# Altium footprint library Excess.PcbLib: 4 footprints
Each footprint in its own frame and in the unit in brackets; x right, y up, seen from the top. Pads: shape width x height; smd on the part's side, far side on the other; paste and mask are expansions set on the pad; w line width, h text height; cw(c..) or ccw(c..) is an arc to the next point about the centre after c.
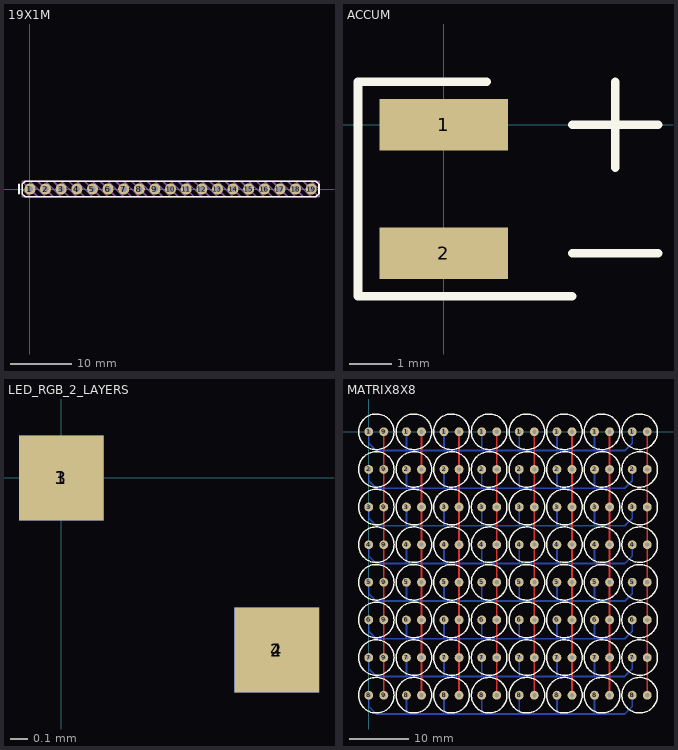
[diagram p0: the footprints below, top view; thin cyan lines are the x and y axes]

## 19X1M [mm]
pads (19):
  round 1.8 hole 1: 1(0,0) 2(2.54,0) 3(5.08,0) 4(7.62,0) 5(10.16,0) 6(12.7,0) 7(15.24,0) 8(17.78,0) 9(20.32,0) 10(22.86,0) 11(25.4,0) 12(27.94,0) 13(30.48,0) 14(33.02,0) 15(35.56,0) 16(38.1,0) 17(40.64,0) 18(43.18,0) 19(45.72,0)
Top Overlay:
  lines w0.254: -1.778,-0.762 -1.778,0.762 ; -1.27,-0.762 -1.27,0.762 -0.762,1.27 46.482,1.27 46.99,0.762 46.99,-0.762 46.482,-1.27 -0.762,-1.27 -1.27,-0.762
Draw:
  lines w0.254: -1.27,0 0,-1.27 0.254,-1.27 ; 0,1.27 1.27,0 2.54,-1.27 2.794,-1.27 ; 2.54,1.27 3.81,0 5.08,-1.27 5.334,-1.27 ; 5.08,1.27 6.35,0 7.62,-1.27 7.874,-1.27 ; 7.62,1.27 8.89,0 10.16,-1.27 10.414,-1.27 ; 10.16,1.27 11.43,0 12.7,-1.27 12.954,-1.27 ; 12.7,1.27 13.97,0 15.24,-1.27 15.494,-1.27 ; 15.24,1.27 16.51,0 17.78,-1.27 18.034,-1.27 ; 17.78,1.27 19.05,0 20.32,-1.27 20.574,-1.27 ; 20.32,1.27 21.59,0 22.86,-1.27 23.114,-1.27 ; 22.86,1.27 24.13,0 25.4,-1.27 25.654,-1.27 ; 25.4,1.27 26.67,0 27.94,-1.27 28.194,-1.27 ; 27.94,1.27 29.21,0 30.48,-1.27 30.734,-1.27 ; 30.48,1.27 31.75,0 33.02,-1.27 33.274,-1.27 ; 33.02,1.27 34.29,0 35.56,-1.27 35.814,-1.27 ; 35.56,1.27 36.83,0 38.1,-1.27 38.354,-1.27 ; 38.1,1.27 39.37,0 40.64,-1.27 40.894,-1.27 ; 40.64,1.27 41.91,0 43.18,-1.27 43.434,-1.27 ; 43.18,1.27 44.45,0 45.72,-1.27 ; 44.45,-1.27 41.91,1.27 ; 44.45,1.27 46.99,-1.27 ; 45.72,1.27 46.99,0 ; -1.27,1.27 1.27,-1.27 ; -1.27,1.27 1.27,1.27 ; -1.27,1.27 -1.27,-1.27 1.27,-1.27 ; 1.27,-1.27 3.81,-1.27 ; 1.27,1.27 3.81,-1.27 ; 1.27,1.27 3.81,1.27 ; 3.81,-1.27 6.35,-1.27 ; 3.81,1.27 6.35,-1.27 ; 3.81,1.27 6.35,1.27 ; 6.35,-1.27 8.89,-1.27 ; 6.35,1.27 8.89,-1.27 ; 6.35,1.27 8.89,1.27 ; 8.89,-1.27 11.43,-1.27 ; 8.89,1.27 11.43,-1.27 ; 8.89,1.27 11.43,1.27 ; 11.43,-1.27 13.97,-1.27 ; 11.43,1.27 13.97,-1.27 ; 11.43,1.27 13.97,1.27 ; 13.97,-1.27 16.51,-1.27 ; 13.97,1.27 16.51,-1.27 ; 13.97,1.27 16.51,1.27 ; 16.51,-1.27 19.05,-1.27 ; 16.51,1.27 19.05,-1.27 ; 16.51,1.27 19.05,1.27 ; 19.05,-1.27 21.59,-1.27 ; 19.05,1.27 21.59,-1.27 ; 19.05,1.27 21.59,1.27 ; 21.59,-1.27 24.13,-1.27 ; 21.59,1.27 24.13,-1.27 ; 21.59,1.27 24.13,1.27 ; 24.13,-1.27 26.67,-1.27 ; 24.13,1.27 26.67,-1.27 ; 24.13,1.27 26.67,1.27 ; 26.67,-1.27 29.21,-1.27 ; 26.67,1.27 29.21,-1.27 ; 26.67,1.27 29.21,1.27 ; 29.21,-1.27 31.75,-1.27 ; 29.21,1.27 31.75,-1.27 ; 29.21,1.27 31.75,1.27 ; 31.75,-1.27 34.29,-1.27 ; 31.75,1.27 34.29,-1.27 ; 31.75,1.27 34.29,1.27 ; 34.29,-1.27 36.83,-1.27 ; 34.29,1.27 36.83,-1.27 ; 34.29,1.27 36.83,1.27 ; 36.83,-1.27 39.37,-1.27 ; 36.83,1.27 39.37,-1.27 ; 36.83,1.27 39.37,1.27 ; 39.37,-1.27 41.91,-1.27 ; 39.37,1.27 41.91,1.27 ; 39.37,1.27 41.91,-1.27 ; 41.91,-1.27 46.99,-1.27 ; 41.91,1.27 46.99,1.27 46.99,-1.27
3D body: height 7.5, standoff 0, extent 42.647,0.508 43.714,0.534
3D body: height 7.5, standoff 0, extent 43.688,-0.533 43.714,0.533
3D body: height 8, standoff 7.5, extent 43.688,-1.016 44.189,1.016
3D body: height 8, standoff 7.5, extent 42.164,0.508 44.196,1.009
3D body: height 8, standoff 7.5, extent 42.172,-1.016 42.672,1.016
3D body: height 8, standoff 7.5, extent 42.19,-1.008 44.222,-0.508
3D body: height 8, standoff 0, extent 41.91,-1.27 42.19,1.27
3D body: height 1, standoff 0, extent 42.545,-0.635 43.815,0.635
3D body: height 7, standoff 0, extent 42.647,0.483 43.713,0.533
3D body: height 7, standoff 0, extent 43.663,-0.533 43.714,0.533
3D body: height 7, standoff 0, extent 42.647,-0.533 43.714,-0.483
3D body: height 8, standoff 0, extent 41.91,-1.27 44.45,-0.99
3D body: height 0, standoff -3, extent 43.053,-0.254 43.307,0.254
3D body: height 8, standoff 0, extent 41.91,0.991 44.45,1.27
3D body: height 8, standoff 0, extent 44.171,-1.27 44.45,1.27
3D body: height 7.5, standoff 0, extent 42.647,-0.533 43.714,-0.508
3D body: height 7.5, standoff 0, extent 42.647,-0.533 42.672,0.534
3D body: height 7, standoff 0, extent 42.647,-0.533 42.697,0.533
3D body: height 7.5, standoff 0, extent 40.107,0.508 41.174,0.534
3D body: height 7.5, standoff 0, extent 41.148,-0.533 41.174,0.533
3D body: height 8, standoff 7.5, extent 41.148,-1.016 41.649,1.016
3D body: height 8, standoff 7.5, extent 39.624,0.508 41.656,1.009
3D body: height 8, standoff 7.5, extent 39.632,-1.016 40.132,1.016
3D body: height 8, standoff 7.5, extent 39.65,-1.008 41.682,-0.508
3D body: height 8, standoff 0, extent 39.37,-1.27 39.65,1.27
3D body: height 1, standoff 0, extent 40.005,-0.635 41.275,0.635
3D body: height 7, standoff 0, extent 40.107,0.483 41.173,0.533
3D body: height 7, standoff 0, extent 41.123,-0.533 41.174,0.533
3D body: height 7, standoff 0, extent 40.107,-0.533 41.174,-0.483
3D body: height 8, standoff 0, extent 39.37,-1.27 41.91,-0.99
3D body: height 0, standoff -3, extent 40.513,-0.254 40.767,0.254
3D body: height 8, standoff 0, extent 39.37,0.991 41.91,1.27
3D body: height 8, standoff 0, extent 41.631,-1.27 41.91,1.27
3D body: height 7.5, standoff 0, extent 40.107,-0.533 41.174,-0.508
3D body: height 7.5, standoff 0, extent 40.107,-0.533 40.132,0.534
3D body: height 7, standoff 0, extent 40.107,-0.533 40.157,0.533
3D body: height 7.5, standoff 0, extent 37.567,0.508 38.634,0.534
3D body: height 7.5, standoff 0, extent 38.608,-0.533 38.634,0.533
3D body: height 8, standoff 7.5, extent 38.608,-1.016 39.109,1.016
3D body: height 8, standoff 7.5, extent 37.084,0.508 39.116,1.009
3D body: height 8, standoff 7.5, extent 37.092,-1.016 37.592,1.016
3D body: height 8, standoff 7.5, extent 37.11,-1.008 39.142,-0.508
3D body: height 8, standoff 0, extent 36.83,-1.27 37.11,1.27
3D body: height 1, standoff 0, extent 37.465,-0.635 38.735,0.635
3D body: height 7, standoff 0, extent 37.567,0.483 38.633,0.533
3D body: height 7, standoff 0, extent 38.583,-0.533 38.634,0.533
3D body: height 7, standoff 0, extent 37.567,-0.533 38.634,-0.483
3D body: height 8, standoff 0, extent 36.83,-1.27 39.37,-0.99
3D body: height 0, standoff -3, extent 37.973,-0.254 38.227,0.254
3D body: height 8, standoff 0, extent 36.83,0.991 39.37,1.27
3D body: height 8, standoff 0, extent 39.091,-1.27 39.37,1.27
3D body: height 7.5, standoff 0, extent 37.567,-0.533 38.634,-0.508
3D body: height 7.5, standoff 0, extent 37.567,-0.533 37.592,0.534
3D body: height 7, standoff 0, extent 37.567,-0.533 37.617,0.533
3D body: height 7.5, standoff 0, extent 35.027,0.508 36.094,0.534
3D body: height 7.5, standoff 0, extent 36.068,-0.533 36.094,0.533
3D body: height 8, standoff 7.5, extent 36.068,-1.016 36.569,1.016
3D body: height 8, standoff 7.5, extent 34.544,0.508 36.576,1.009
3D body: height 8, standoff 7.5, extent 34.552,-1.016 35.052,1.016
3D body: height 8, standoff 7.5, extent 34.57,-1.008 36.602,-0.508
3D body: height 8, standoff 0, extent 34.29,-1.27 34.57,1.27
3D body: height 1, standoff 0, extent 34.925,-0.635 36.195,0.635
3D body: height 7, standoff 0, extent 35.027,0.483 36.093,0.533
3D body: height 7, standoff 0, extent 36.043,-0.533 36.094,0.533
3D body: height 7, standoff 0, extent 35.027,-0.533 36.094,-0.483
3D body: height 8, standoff 0, extent 34.29,-1.27 36.83,-0.99
3D body: height 0, standoff -3, extent 35.433,-0.254 35.687,0.254
3D body: height 8, standoff 0, extent 34.29,0.991 36.83,1.27
3D body: height 8, standoff 0, extent 36.551,-1.27 36.83,1.27
3D body: height 7.5, standoff 0, extent 35.027,-0.533 36.094,-0.508
3D body: height 7.5, standoff 0, extent 35.027,-0.533 35.052,0.534
3D body: height 7, standoff 0, extent 35.027,-0.533 35.077,0.533
3D body: height 7.5, standoff 0, extent 32.487,0.508 33.554,0.534
3D body: height 7.5, standoff 0, extent 33.528,-0.533 33.554,0.533
3D body: height 8, standoff 7.5, extent 33.528,-1.016 34.029,1.016
3D body: height 8, standoff 7.5, extent 32.004,0.508 34.036,1.009
3D body: height 8, standoff 7.5, extent 32.012,-1.016 32.512,1.016
3D body: height 8, standoff 7.5, extent 32.03,-1.008 34.062,-0.508
3D body: height 8, standoff 0, extent 31.75,-1.27 32.03,1.27
3D body: height 1, standoff 0, extent 32.385,-0.635 33.655,0.635
3D body: height 7, standoff 0, extent 32.487,0.483 33.553,0.533
3D body: height 7, standoff 0, extent 33.503,-0.533 33.554,0.533
3D body: height 7, standoff 0, extent 32.487,-0.533 33.554,-0.483
3D body: height 8, standoff 0, extent 31.75,-1.27 34.29,-0.99
3D body: height 0, standoff -3, extent 32.893,-0.254 33.147,0.254
3D body: height 8, standoff 0, extent 31.75,0.991 34.29,1.27
3D body: height 8, standoff 0, extent 34.011,-1.27 34.29,1.27
3D body: height 7.5, standoff 0, extent 32.487,-0.533 33.554,-0.508
3D body: height 7.5, standoff 0, extent 32.487,-0.533 32.512,0.534
3D body: height 7, standoff 0, extent 32.487,-0.533 32.537,0.533
3D body: height 7.5, standoff 0, extent 29.947,0.508 31.014,0.534
3D body: height 7.5, standoff 0, extent 30.988,-0.533 31.014,0.533
3D body: height 8, standoff 7.5, extent 30.988,-1.016 31.489,1.016
3D body: height 8, standoff 7.5, extent 29.464,0.508 31.496,1.009
3D body: height 8, standoff 7.5, extent 29.472,-1.016 29.972,1.016
3D body: height 8, standoff 7.5, extent 29.49,-1.008 31.522,-0.508
3D body: height 8, standoff 0, extent 29.21,-1.27 29.49,1.27
3D body: height 1, standoff 0, extent 29.845,-0.635 31.115,0.635
3D body: height 7, standoff 0, extent 29.947,0.483 31.013,0.533
3D body: height 7, standoff 0, extent 30.963,-0.533 31.014,0.533
3D body: height 7, standoff 0, extent 29.947,-0.533 31.014,-0.483
3D body: height 8, standoff 0, extent 29.21,-1.27 31.75,-0.99
3D body: height 0, standoff -3, extent 30.353,-0.254 30.607,0.254
3D body: height 8, standoff 0, extent 29.21,0.991 31.75,1.27
3D body: height 8, standoff 0, extent 31.471,-1.27 31.75,1.27
3D body: height 7.5, standoff 0, extent 29.947,-0.533 31.014,-0.508
3D body: height 7.5, standoff 0, extent 29.947,-0.533 29.972,0.534
3D body: height 7, standoff 0, extent 29.947,-0.533 29.997,0.533
3D body: height 7.5, standoff 0, extent 27.407,0.508 28.474,0.534
3D body: height 7.5, standoff 0, extent 28.448,-0.533 28.474,0.533
3D body: height 8, standoff 7.5, extent 28.448,-1.016 28.949,1.016
3D body: height 8, standoff 7.5, extent 26.924,0.508 28.956,1.009
3D body: height 8, standoff 7.5, extent 26.932,-1.016 27.432,1.016
3D body: height 8, standoff 7.5, extent 26.95,-1.008 28.982,-0.508
3D body: height 8, standoff 0, extent 26.67,-1.27 26.95,1.27
3D body: height 1, standoff 0, extent 27.305,-0.635 28.575,0.635
3D body: height 7, standoff 0, extent 27.407,0.483 28.473,0.533
3D body: height 7, standoff 0, extent 28.423,-0.533 28.474,0.533
3D body: height 7, standoff 0, extent 27.407,-0.533 28.474,-0.483
3D body: height 8, standoff 0, extent 26.67,-1.27 29.21,-0.99
3D body: height 0, standoff -3, extent 27.813,-0.254 28.067,0.254
3D body: height 8, standoff 0, extent 26.67,0.991 29.21,1.27
3D body: height 8, standoff 0, extent 28.931,-1.27 29.21,1.27
3D body: height 7.5, standoff 0, extent 27.407,-0.533 28.474,-0.508
3D body: height 7.5, standoff 0, extent 27.407,-0.533 27.432,0.534
3D body: height 7, standoff 0, extent 27.407,-0.533 27.457,0.533
3D body: height 7.5, standoff 0, extent 24.867,0.508 25.934,0.534
3D body: height 7.5, standoff 0, extent 25.908,-0.533 25.934,0.533
3D body: height 8, standoff 7.5, extent 25.908,-1.016 26.409,1.016
3D body: height 8, standoff 7.5, extent 24.384,0.508 26.416,1.009
3D body: height 8, standoff 7.5, extent 24.392,-1.016 24.892,1.016
3D body: height 8, standoff 7.5, extent 24.41,-1.008 26.442,-0.508
3D body: height 8, standoff 0, extent 24.13,-1.27 24.41,1.27
3D body: height 1, standoff 0, extent 24.765,-0.635 26.035,0.635
3D body: height 7, standoff 0, extent 24.867,0.483 25.933,0.533
3D body: height 7, standoff 0, extent 25.883,-0.533 25.934,0.533
3D body: height 7, standoff 0, extent 24.867,-0.533 25.934,-0.483
3D body: height 8, standoff 0, extent 24.13,-1.27 26.67,-0.99
3D body: height 0, standoff -3, extent 25.273,-0.254 25.527,0.254
3D body: height 8, standoff 0, extent 24.13,0.991 26.67,1.27
3D body: height 8, standoff 0, extent 26.391,-1.27 26.67,1.27
3D body: height 7.5, standoff 0, extent 24.867,-0.533 25.934,-0.508
3D body: height 7.5, standoff 0, extent 24.867,-0.533 24.892,0.534
3D body: height 7, standoff 0, extent 24.867,-0.533 24.917,0.533
3D body: height 7.5, standoff 0, extent 22.327,0.508 23.394,0.534
3D body: height 7.5, standoff 0, extent 23.368,-0.533 23.394,0.533
3D body: height 8, standoff 7.5, extent 23.368,-1.016 23.869,1.016
3D body: height 8, standoff 7.5, extent 21.844,0.508 23.876,1.009
3D body: height 8, standoff 7.5, extent 21.852,-1.016 22.352,1.016
3D body: height 8, standoff 7.5, extent 21.87,-1.008 23.902,-0.508
3D body: height 8, standoff 0, extent 21.59,-1.27 21.87,1.27
3D body: height 1, standoff 0, extent 22.225,-0.635 23.495,0.635
3D body: height 7, standoff 0, extent 22.327,0.483 23.393,0.533
3D body: height 7, standoff 0, extent 23.343,-0.533 23.394,0.533
3D body: height 7, standoff 0, extent 22.327,-0.533 23.394,-0.483
3D body: height 8, standoff 0, extent 21.59,-1.27 24.13,-0.99
3D body: height 0, standoff -3, extent 22.733,-0.254 22.987,0.254
3D body: height 8, standoff 0, extent 21.59,0.991 24.13,1.27
3D body: height 8, standoff 0, extent 23.851,-1.27 24.13,1.27
3D body: height 7.5, standoff 0, extent 22.327,-0.533 23.394,-0.508
3D body: height 7.5, standoff 0, extent 22.327,-0.533 22.352,0.534
3D body: height 7, standoff 0, extent 22.327,-0.533 22.377,0.533
3D body: height 7.5, standoff 0, extent 19.787,0.508 20.854,0.534
3D body: height 7.5, standoff 0, extent 20.828,-0.533 20.854,0.533
3D body: height 8, standoff 7.5, extent 20.828,-1.016 21.329,1.016
3D body: height 8, standoff 7.5, extent 19.304,0.508 21.336,1.009
3D body: height 8, standoff 7.5, extent 19.312,-1.016 19.812,1.016
3D body: height 8, standoff 7.5, extent 19.33,-1.008 21.362,-0.508
3D body: height 8, standoff 0, extent 19.05,-1.27 19.33,1.27
3D body: height 1, standoff 0, extent 19.685,-0.635 20.955,0.635
3D body: height 7, standoff 0, extent 19.787,0.483 20.853,0.533
3D body: height 7, standoff 0, extent 20.803,-0.533 20.854,0.533
3D body: height 7, standoff 0, extent 19.787,-0.533 20.854,-0.483
3D body: height 8, standoff 0, extent 19.05,-1.27 21.59,-0.99
3D body: height 0, standoff -3, extent 20.193,-0.254 20.447,0.254
3D body: height 8, standoff 0, extent 19.05,0.991 21.59,1.27
3D body: height 8, standoff 0, extent 21.311,-1.27 21.59,1.27
3D body: height 7.5, standoff 0, extent 19.787,-0.533 20.854,-0.508
3D body: height 7.5, standoff 0, extent 19.787,-0.533 19.812,0.534
3D body: height 7, standoff 0, extent 19.787,-0.533 19.837,0.533
3D body: height 7.5, standoff 0, extent 17.247,0.508 18.314,0.534
3D body: height 7.5, standoff 0, extent 18.288,-0.533 18.314,0.533
3D body: height 8, standoff 7.5, extent 18.288,-1.016 18.789,1.016
3D body: height 8, standoff 7.5, extent 16.764,0.508 18.796,1.009
3D body: height 8, standoff 7.5, extent 16.772,-1.016 17.272,1.016
3D body: height 8, standoff 7.5, extent 16.79,-1.008 18.822,-0.508
3D body: height 8, standoff 0, extent 16.51,-1.27 16.79,1.27
3D body: height 1, standoff 0, extent 17.145,-0.635 18.415,0.635
3D body: height 7, standoff 0, extent 17.247,0.483 18.313,0.533
3D body: height 7, standoff 0, extent 18.263,-0.533 18.314,0.533
3D body: height 7, standoff 0, extent 17.247,-0.533 18.314,-0.483
3D body: height 8, standoff 0, extent 16.51,-1.27 19.05,-0.99
3D body: height 0, standoff -3, extent 17.653,-0.254 17.907,0.254
3D body: height 8, standoff 0, extent 16.51,0.991 19.05,1.27
3D body: height 8, standoff 0, extent 18.771,-1.27 19.05,1.27
3D body: height 7.5, standoff 0, extent 17.247,-0.533 18.314,-0.508
3D body: height 7.5, standoff 0, extent 17.247,-0.533 17.272,0.534
3D body: height 7, standoff 0, extent 17.247,-0.533 17.297,0.533
3D body: height 7.5, standoff 0, extent 14.707,0.508 15.774,0.534
3D body: height 7.5, standoff 0, extent 15.748,-0.533 15.774,0.533
3D body: height 8, standoff 7.5, extent 15.748,-1.016 16.249,1.016
3D body: height 8, standoff 7.5, extent 14.224,0.508 16.256,1.009
3D body: height 8, standoff 7.5, extent 14.232,-1.016 14.732,1.016
3D body: height 8, standoff 7.5, extent 14.25,-1.008 16.282,-0.508
3D body: height 8, standoff 0, extent 13.97,-1.27 14.25,1.27
3D body: height 1, standoff 0, extent 14.605,-0.635 15.875,0.635
3D body: height 7, standoff 0, extent 14.707,0.483 15.773,0.533
3D body: height 7, standoff 0, extent 15.723,-0.533 15.774,0.533
3D body: height 7, standoff 0, extent 14.707,-0.533 15.774,-0.483
3D body: height 8, standoff 0, extent 13.97,-1.27 16.51,-0.99
3D body: height 0, standoff -3, extent 15.113,-0.254 15.367,0.254
3D body: height 8, standoff 0, extent 13.97,0.991 16.51,1.27
3D body: height 8, standoff 0, extent 16.231,-1.27 16.51,1.27
3D body: height 7.5, standoff 0, extent 14.707,-0.533 15.774,-0.508
3D body: height 7.5, standoff 0, extent 14.707,-0.533 14.732,0.534
3D body: height 7, standoff 0, extent 14.707,-0.533 14.757,0.533
3D body: height 7.5, standoff 0, extent 12.167,0.508 13.234,0.534
3D body: height 7.5, standoff 0, extent 13.208,-0.533 13.234,0.533
3D body: height 8, standoff 7.5, extent 13.208,-1.016 13.709,1.016
3D body: height 8, standoff 7.5, extent 11.684,0.508 13.716,1.009
3D body: height 8, standoff 7.5, extent 11.692,-1.016 12.192,1.016
3D body: height 8, standoff 7.5, extent 11.71,-1.008 13.742,-0.508
3D body: height 8, standoff 0, extent 11.43,-1.27 11.71,1.27
3D body: height 1, standoff 0, extent 12.065,-0.635 13.335,0.635
3D body: height 7, standoff 0, extent 12.167,0.483 13.233,0.533
3D body: height 7, standoff 0, extent 13.183,-0.533 13.234,0.533
3D body: height 7, standoff 0, extent 12.167,-0.533 13.234,-0.483
3D body: height 8, standoff 0, extent 11.43,-1.27 13.97,-0.99
3D body: height 0, standoff -3, extent 12.573,-0.254 12.827,0.254
3D body: height 8, standoff 0, extent 11.43,0.991 13.97,1.27
3D body: height 8, standoff 0, extent 13.691,-1.27 13.97,1.27
3D body: height 7.5, standoff 0, extent 12.167,-0.533 13.234,-0.508
3D body: height 7.5, standoff 0, extent 12.167,-0.533 12.192,0.534
3D body: height 7, standoff 0, extent 12.167,-0.533 12.217,0.533
3D body: height 7.5, standoff 0, extent 9.627,0.508 10.694,0.534
3D body: height 7.5, standoff 0, extent 10.668,-0.533 10.694,0.533
3D body: height 8, standoff 7.5, extent 10.668,-1.016 11.169,1.016
3D body: height 8, standoff 7.5, extent 9.144,0.508 11.176,1.009
3D body: height 8, standoff 7.5, extent 9.152,-1.016 9.652,1.016
3D body: height 8, standoff 7.5, extent 9.17,-1.008 11.202,-0.508
3D body: height 8, standoff 0, extent 8.89,-1.27 9.17,1.27
3D body: height 1, standoff 0, extent 9.525,-0.635 10.795,0.635
3D body: height 7, standoff 0, extent 9.627,0.483 10.693,0.533
3D body: height 7, standoff 0, extent 10.643,-0.533 10.694,0.533
3D body: height 7, standoff 0, extent 9.627,-0.533 10.694,-0.483
3D body: height 8, standoff 0, extent 8.89,-1.27 11.43,-0.99
3D body: height 0, standoff -3, extent 10.033,-0.254 10.287,0.254
3D body: height 8, standoff 0, extent 8.89,0.991 11.43,1.27
3D body: height 8, standoff 0, extent 11.151,-1.27 11.43,1.27
3D body: height 7.5, standoff 0, extent 9.627,-0.533 10.694,-0.508
3D body: height 7.5, standoff 0, extent 9.627,-0.533 9.652,0.534
3D body: height 7, standoff 0, extent 9.627,-0.533 9.677,0.533
3D body: height 7.5, standoff 0, extent 7.087,0.508 8.154,0.534
3D body: height 7.5, standoff 0, extent 8.128,-0.533 8.154,0.533
3D body: height 8, standoff 7.5, extent 8.128,-1.016 8.629,1.016
3D body: height 8, standoff 7.5, extent 6.604,0.508 8.636,1.009
3D body: height 8, standoff 7.5, extent 6.612,-1.016 7.112,1.016
3D body: height 8, standoff 7.5, extent 6.63,-1.008 8.662,-0.508
3D body: height 8, standoff 0, extent 6.35,-1.27 6.63,1.27
3D body: height 1, standoff 0, extent 6.985,-0.635 8.255,0.635
3D body: height 7, standoff 0, extent 7.087,0.483 8.153,0.533
3D body: height 7, standoff 0, extent 8.103,-0.533 8.154,0.533
3D body: height 7, standoff 0, extent 7.087,-0.533 8.154,-0.483
3D body: height 8, standoff 0, extent 6.35,-1.27 8.89,-0.99
3D body: height 0, standoff -3, extent 7.493,-0.254 7.747,0.254
3D body: height 8, standoff 0, extent 6.35,0.991 8.89,1.27
3D body: height 8, standoff 0, extent 8.611,-1.27 8.89,1.27
3D body: height 7.5, standoff 0, extent 7.087,-0.533 8.154,-0.508
3D body: height 7.5, standoff 0, extent 7.087,-0.533 7.112,0.534
3D body: height 7, standoff 0, extent 7.087,-0.533 7.137,0.533
3D body: height 7.5, standoff 0, extent 4.547,0.508 5.614,0.534
3D body: height 7.5, standoff 0, extent 5.588,-0.533 5.614,0.533
3D body: height 8, standoff 7.5, extent 5.588,-1.016 6.089,1.016
3D body: height 8, standoff 7.5, extent 4.064,0.508 6.096,1.009
3D body: height 8, standoff 7.5, extent 4.072,-1.016 4.572,1.016
3D body: height 8, standoff 7.5, extent 4.09,-1.008 6.122,-0.508
3D body: height 8, standoff 0, extent 3.81,-1.27 4.09,1.27
3D body: height 1, standoff 0, extent 4.445,-0.635 5.715,0.635
3D body: height 7, standoff 0, extent 4.547,0.483 5.613,0.533
3D body: height 7, standoff 0, extent 5.563,-0.533 5.614,0.533
3D body: height 7, standoff 0, extent 4.547,-0.533 5.614,-0.483
3D body: height 8, standoff 0, extent 3.81,-1.27 6.35,-0.99
3D body: height 0, standoff -3, extent 4.953,-0.254 5.207,0.254
3D body: height 8, standoff 0, extent 3.81,0.991 6.35,1.27
3D body: height 8, standoff 0, extent 6.071,-1.27 6.35,1.27
3D body: height 7.5, standoff 0, extent 4.547,-0.533 5.614,-0.508
3D body: height 7.5, standoff 0, extent 4.547,-0.533 4.572,0.534
3D body: height 7, standoff 0, extent 4.547,-0.533 4.597,0.533
3D body: height 7.5, standoff 0, extent 2.007,0.508 3.074,0.534
3D body: height 7.5, standoff 0, extent 3.048,-0.533 3.074,0.533
3D body: height 8, standoff 7.5, extent 3.048,-1.016 3.549,1.016
3D body: height 8, standoff 7.5, extent 1.524,0.508 3.556,1.009
3D body: height 8, standoff 7.5, extent 1.532,-1.016 2.032,1.016
3D body: height 8, standoff 7.5, extent 1.55,-1.008 3.582,-0.508
3D body: height 8, standoff 0, extent 1.27,-1.27 1.55,1.27
3D body: height 1, standoff 0, extent 1.905,-0.635 3.175,0.635
3D body: height 7, standoff 0, extent 2.007,0.483 3.073,0.533
3D body: height 7, standoff 0, extent 3.023,-0.533 3.074,0.533
3D body: height 7, standoff 0, extent 2.007,-0.533 3.074,-0.483
3D body: height 8, standoff 0, extent 1.27,-1.27 3.81,-0.99
3D body: height 0, standoff -3, extent 2.413,-0.254 2.667,0.254
3D body: height 8, standoff 0, extent 1.27,0.991 3.81,1.27
3D body: height 8, standoff 0, extent 3.531,-1.27 3.81,1.27
3D body: height 7.5, standoff 0, extent 2.007,-0.533 3.074,-0.508
3D body: height 7.5, standoff 0, extent 2.007,-0.533 2.032,0.534
3D body: height 7, standoff 0, extent 2.007,-0.533 2.057,0.533
3D body: height 7.5, standoff 0, extent -0.533,0.508 0.534,0.534
3D body: height 7.5, standoff 0, extent 0.508,-0.533 0.534,0.533
3D body: height 8, standoff 7.5, extent 0.508,-1.016 1.009,1.016
3D body: height 8, standoff 7.5, extent -1.016,0.508 1.016,1.009
3D body: height 8, standoff 7.5, extent -1.008,-1.016 -0.508,1.016
3D body: height 8, standoff 7.5, extent -0.99,-1.008 1.042,-0.508
3D body: height 8, standoff 0, extent -1.27,-1.27 -0.99,1.27
3D body: height 1, standoff 0, extent -0.635,-0.635 0.635,0.635
3D body: height 7, standoff 0, extent -0.533,0.483 0.533,0.533
3D body: height 7, standoff 0, extent 0.483,-0.533 0.534,0.533
3D body: height 7, standoff 0, extent -0.533,-0.533 0.534,-0.483
3D body: height 8, standoff 0, extent -1.27,-1.27 1.27,-0.99
3D body: height 0, standoff -3, extent -0.127,-0.254 0.127,0.254
3D body: height 8, standoff 0, extent -1.27,0.991 1.27,1.27
3D body: height 8, standoff 0, extent 0.991,-1.27 1.27,1.27
3D body: height 7.5, standoff 0, extent -0.533,-0.533 0.534,-0.508
3D body: height 7.5, standoff 0, extent -0.533,-0.533 -0.508,0.534
3D body: height 7, standoff 0, extent -0.533,-0.533 -0.483,0.533
3D body: height 7.5, standoff 0, extent 45.187,0.508 46.254,0.534
3D body: height 7.5, standoff 0, extent 46.228,-0.533 46.254,0.533
3D body: height 8, standoff 7.5, extent 46.228,-1.016 46.729,1.016
3D body: height 8, standoff 7.5, extent 44.704,0.508 46.736,1.009
3D body: height 8, standoff 7.5, extent 44.712,-1.016 45.212,1.016
3D body: height 8, standoff 7.5, extent 44.73,-1.008 46.762,-0.508
3D body: height 8, standoff 0, extent 44.45,-1.27 44.73,1.27
3D body: height 1, standoff 0, extent 45.085,-0.635 46.355,0.635
3D body: height 7, standoff 0, extent 45.187,0.483 46.253,0.533
3D body: height 7, standoff 0, extent 46.203,-0.533 46.254,0.533
3D body: height 7, standoff 0, extent 45.187,-0.533 46.254,-0.483
3D body: height 8, standoff 0, extent 44.45,-1.27 46.99,-0.99
3D body: height 0, standoff -3, extent 45.593,-0.254 45.847,0.254
3D body: height 8, standoff 0, extent 44.45,0.991 46.99,1.27
3D body: height 8, standoff 0, extent 46.711,-1.27 46.99,1.27
3D body: height 7.5, standoff 0, extent 45.187,-0.533 46.254,-0.508
3D body: height 7.5, standoff 0, extent 45.187,-0.533 45.212,0.534
3D body: height 7, standoff 0, extent 45.187,-0.533 45.237,0.533

## ACCUM [mm]
pads (2):
  rect 3x1.2 smd: 1(0,0) 2(0,-3)
Top Overlay:
  lines w0.203: 3,-4 2,-4 1,-4 -2,-4 -2,1 ; 3,-3 5,-3 ; 3,0 5,0 ; 4,-1 4,1 ; -2,1 1,1 -2,1

## LED_RGB_2_LAYERS [mm]
pads (4):
  rect 0.5x0.5 smd: 1(0,0) 2(1.27,-1.016)
  rect 0.5x0.5 smd far side: 3(0,0) 4(1.27,-1.016)

## MATRIX8X8 [mm]
pads (128):
  round 1.5 hole 0.7: 1(0,0) 1(6.35,0) 1(12.7,0) 1(19.05,0) 1(25.4,0) 1(31.75,0) 1(38.1,0) 1(44.45,0) 2(0,-6.35) 2(6.35,-6.35) 2(12.7,-6.35) 2(19.05,-6.35) 2(25.4,-6.35) 2(31.75,-6.35) 2(38.1,-6.35) 2(44.45,-6.35) 3(0,-12.7) 3(6.35,-12.7) 3(12.7,-12.7) 3(19.05,-12.7) 3(25.4,-12.7) 3(31.75,-12.7) 3(38.1,-12.7) 3(44.45,-12.7) 4(0,-19.05) 4(6.35,-19.05) 4(12.7,-19.05) 4(19.05,-19.05) 4(25.4,-19.05) 4(31.75,-19.05) 4(38.1,-19.05) 4(44.45,-19.05) 5(0,-25.4) 5(6.35,-25.4) 5(12.7,-25.4) 5(19.05,-25.4) 5(25.4,-25.4) 5(31.75,-25.4) 5(38.1,-25.4) 5(44.45,-25.4) 6(0,-31.75) 6(6.35,-31.75) 6(12.7,-31.75) 6(19.05,-31.75) 6(25.4,-31.75) 6(31.75,-31.75) 6(38.1,-31.75) 6(44.45,-31.75) 7(0,-38.1) 7(6.35,-38.1) 7(12.7,-38.1) 7(19.05,-38.1) 7(25.4,-38.1) 7(31.75,-38.1) 7(38.1,-38.1) 7(44.45,-38.1) 8(0,-44.45) 8(6.35,-44.45) 8(12.7,-44.45) 8(19.05,-44.45) 8(25.4,-44.45) 8(31.75,-44.45) 8(38.1,-44.45) 8(44.45,-44.45) 9(2.54,-44.45) 9(2.54,-38.1) 9(2.54,-31.75) 9(2.54,-25.4) 9(2.54,-19.05) 9(2.54,-12.7) 9(2.54,-6.35) 9(2.54,0) 10(8.89,-44.45) 10(8.89,-38.1) 10(8.89,-31.75) 10(8.89,-25.4) 10(8.89,-19.05) 10(8.89,-12.7) 10(8.89,-6.35) 10(8.89,0) 11(15.24,-44.45) 11(15.24,-38.1) 11(15.24,-31.75) 11(15.24,-25.4) 11(15.24,-19.05) 11(15.24,-12.7) 11(15.24,-6.35) 11(15.24,0) 12(21.59,-44.45) 12(21.59,-38.1) 12(21.59,-31.75) 12(21.59,-25.4) 12(21.59,-19.05) 12(21.59,-12.7) 12(21.59,-6.35) 12(21.59,0) 13(27.94,-44.45) 13(27.94,-38.1) 13(27.94,-31.75) 13(27.94,-25.4) 13(27.94,-19.05) 13(27.94,-12.7) 13(27.94,-6.35) 13(27.94,0) 14(34.29,-44.45) 14(34.29,-38.1) 14(34.29,-31.75) 14(34.29,-25.4) 14(34.29,-19.05) 14(34.29,-12.7) 14(34.29,-6.35) 14(34.29,0) 15(40.64,-44.45) 15(40.64,-38.1) 15(40.64,-31.75) 15(40.64,-25.4) 15(40.64,-19.05) 15(40.64,-12.7) 15(40.64,-6.35) 15(40.64,0) 16(46.99,-44.45) 16(46.99,-38.1) 16(46.99,-31.75) 16(46.99,-25.4) 16(46.99,-19.05) 16(46.99,-12.7) 16(46.99,-6.35) 16(46.99,0)
Top Layer:
  lines w0.3: 2.54,-44.45 2.54,-38.1 2.54,-6.35 2.54,0 ; 8.89,-44.45 8.89,-38.1 8.89,-6.35 8.89,0 ; 15.24,-44.45 15.24,-38.1 15.24,-6.35 15.24,0 ; 21.59,-44.45 21.59,-38.1 21.59,-6.35 21.59,0 ; 27.94,-44.45 27.94,-38.1 27.94,-6.35 27.94,0 ; 34.29,-44.45 34.29,-38.1 34.29,-6.35 34.29,0 ; 40.64,-44.45 40.64,-38.1 40.64,-6.35 40.64,0 ; 46.99,-44.45 46.99,-38.1 46.99,-6.35 46.99,0
Bottom Layer:
  lines w0.3: 0,-44.45 0,-46.355 1.27,-47.625 43.18,-47.625 44.45,-46.355 44.45,-44.45 ; 0,-38.1 0,-40.005 1.27,-41.275 43.18,-41.275 44.45,-40.005 44.45,-38.1 ; 0,-31.75 0,-33.655 1.27,-34.925 43.18,-34.925 44.45,-33.655 44.45,-31.75 ; 0,-25.4 0,-27.305 1.27,-28.575 43.18,-28.575 44.45,-27.305 44.45,-25.4 ; 0,-19.05 0,-20.955 1.27,-22.225 43.18,-22.225 44.45,-20.955 44.45,-19.05 ; 0,-12.7 0,-14.605 1.27,-15.875 43.18,-15.875 44.45,-14.605 44.45,-12.7 ; 0,-6.35 0,-8.255 1.27,-9.525 43.18,-9.525 44.45,-8.255 44.45,-6.35 ; 0,0 0,-1.905 1.27,-3.175 43.18,-3.175 44.45,-1.905 44.45,0 ; 6.35,-47.625 6.35,-44.45 ; 6.35,-41.275 6.35,-38.1 ; 6.35,-34.925 6.35,-31.75 ; 6.35,-28.575 6.35,-25.4 ; 6.35,-22.225 6.35,-19.05 ; 6.35,-15.875 6.35,-12.7 ; 6.35,-9.525 6.35,-6.35 ; 6.35,-3.175 6.35,0 ; 12.7,-47.625 12.7,-44.45 ; 12.7,-41.275 12.7,-38.1 ; 12.7,-34.925 12.7,-31.75 ; 12.7,-28.575 12.7,-25.4 ; 12.7,-22.225 12.7,-19.05 ; 12.7,-15.875 12.7,-12.7 ; 12.7,-9.525 12.7,-6.35 ; 12.7,-3.175 12.7,0 ; 19.05,-47.625 19.05,-44.45 ; 19.05,-41.275 19.05,-38.1 ; 19.05,-34.925 19.05,-31.75 ; 19.05,-28.575 19.05,-25.4 ; 19.05,-22.225 19.05,-19.05 ; 19.05,-15.875 19.05,-12.7 ; 19.05,-9.525 19.05,-6.35 ; 19.05,-3.175 19.05,0 ; 25.4,-47.625 25.4,-44.45 ; 25.4,-41.275 25.4,-38.1 ; 25.4,-34.925 25.4,-31.75 ; 25.4,-28.575 25.4,-25.4 ; 25.4,-22.225 25.4,-19.05 ; 25.4,-15.875 25.4,-12.7 ; 25.4,-9.525 25.4,-6.35 ; 25.4,-3.175 25.4,0 ; 31.75,-47.625 31.75,-44.45 ; 31.75,-41.275 31.75,-38.1 ; 31.75,-34.925 31.75,-31.75 ; 31.75,-28.575 31.75,-25.4 ; 31.75,-22.225 31.75,-19.05 ; 31.75,-15.875 31.75,-12.7 ; 31.75,-9.525 31.75,-6.35 ; 31.75,-3.175 31.75,0 ; 38.1,-47.625 38.1,-44.45 ; 38.1,-41.275 38.1,-38.1 ; 38.1,-34.925 38.1,-31.75 ; 38.1,-28.575 38.1,-25.4 ; 38.1,-22.225 38.1,-19.05 ; 38.1,-15.875 38.1,-12.7 ; 38.1,-9.525 38.1,-6.35 ; 38.1,-3.175 38.1,0
Top Overlay:
  circle w0.254: c26.67,-38.1 r3
  circle w0.254: c26.67,-12.7 r3
  circle w0.254: c26.67,-44.45 r3
  circle w0.254: c26.67,-25.4 r3
  circle w0.254: c26.67,-19.05 r3
  circle w0.254: c26.67,-6.35 r3
  circle w0.254: c26.67,0 r3
  circle w0.254: c26.67,-31.75 r3
  circle w0.254: c20.32,-38.1 r3
  circle w0.254: c13.97,-38.1 r3
  circle w0.254: c7.62,-38.1 r3
  circle w0.254: c20.32,-12.7 r3
  circle w0.254: c13.97,-12.7 r3
  circle w0.254: c7.62,-12.7 r3
  circle w0.254: c45.72,-38.1 r3
  circle w0.254: c39.37,-38.1 r3
  circle w0.254: c45.72,-12.7 r3
  circle w0.254: c39.37,-12.7 r3
  circle w0.254: c7.62,-44.45 r3
  circle w0.254: c13.97,-44.45 r3
  circle w0.254: c20.32,-44.45 r3
  circle w0.254: c20.32,-25.4 r3
  circle w0.254: c13.97,-25.4 r3
  circle w0.254: c7.62,-25.4 r3
  circle w0.254: c20.32,-19.05 r3
  circle w0.254: c13.97,-19.05 r3
  circle w0.254: c7.62,-19.05 r3
  circle w0.254: c20.32,-6.35 r3
  circle w0.254: c13.97,-6.35 r3
  circle w0.254: c7.62,-6.35 r3
  circle w0.254: c39.37,-44.45 r3
  circle w0.254: c45.72,-44.45 r3
  circle w0.254: c45.72,-25.4 r3
  circle w0.254: c39.37,-25.4 r3
  circle w0.254: c45.72,-19.05 r3
  circle w0.254: c39.37,-19.05 r3
  circle w0.254: c45.72,-6.35 r3
  circle w0.254: c39.37,-6.35 r3
  circle w0.254: c7.62,0 r3
  circle w0.254: c13.97,0 r3
  circle w0.254: c20.32,0 r3
  circle w0.254: c20.32,-31.75 r3
  circle w0.254: c13.97,-31.75 r3
  circle w0.254: c7.62,-31.75 r3
  circle w0.254: c39.37,0 r3
  circle w0.254: c45.72,0 r3
  circle w0.254: c45.72,-31.75 r3
  circle w0.254: c39.37,-31.75 r3
  circle w0.254: c33.02,-38.1 r3
  circle w0.254: c1.27,-38.1 r3
  circle w0.254: c33.02,-12.7 r3
  circle w0.254: c1.27,-12.7 r3
  circle w0.254: c1.27,-44.45 r3
  circle w0.254: c33.02,-44.45 r3
  circle w0.254: c33.02,-25.4 r3
  circle w0.254: c1.27,-25.4 r3
  circle w0.254: c33.02,-19.05 r3
  circle w0.254: c1.27,-19.05 r3
  circle w0.254: c33.02,-6.35 r3
  circle w0.254: c1.27,-6.35 r3
  circle w0.254: c33.02,0 r3
  circle w0.254: c33.02,-31.75 r3
  circle w0.254: c1.27,-31.75 r3
  circle w0.254: c1.27,0 r3